# Altium schematic symbol library conn-audio-3.5MM.Schlib: 1 symbol
Pins are listed as number, name and electrical type; pins without a type are passive.

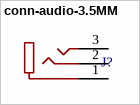
[diagram p0: symbol conn-audio-3.5MM]

## conn-audio-3.5MM
designator J?  (value not drawn)
3.5mm Audio Jack
pins: 1, 2, 3